# Altium integrated library Maxim Peripheral Pulse Generator.IntLib: 4 symbols
Pins are listed as number, name and electrical type; pins without a type are passive.

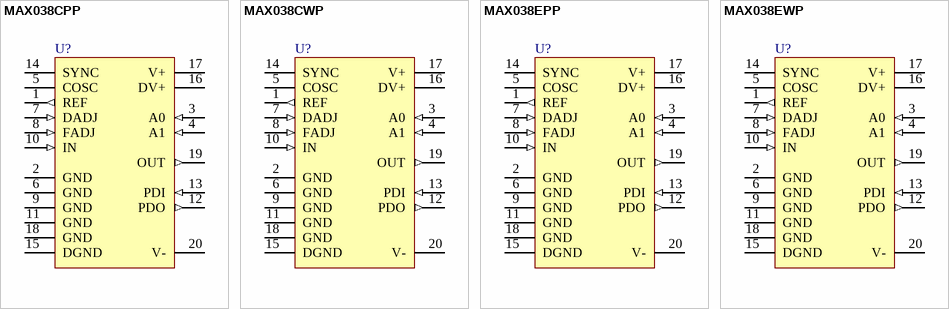
[diagram p0: symbols MAX038CPP to MAX038EWP]

## MAX038CPP
designator U?
High-Frequency Waveform Generator; Published: 16-Jan-2001; LatestRevisionDate: 29-May-2009; LatestRevisionNote: Component Body Added.; DatasheetVersion: Sep-1996; PackageVersion: RevB, 21-0043; PackageReference: PP20; Publisher: Altium Limited; PackageDescription: DIP, 20-Pin, Row Spacing 7.62 mm, Pitch 2.54 mm; Code_JEDEC: MS-001-AE; ComponentLink1Description: Manufacturer Link; ComponentLink1URL: http://www.maxim-ic.com/; ComponentLink2Description: Datasheet; ComponentLink2URL: http://pdfserv.maxim-ic.com/en/ds/MAX038.pdf
footprint PP20 (DIP, 20-Leads, Row Spacing 7.62mm, Pitch 2.54mm, Body 26.16x7.24mm)
3D model PP20 (DIP, 20-Pin, Row Spacing 7.62 mm, Pitch 2.54 mm)
pins: 1 REF (out), 2 GND (power), 3 A0 (in), 4 A1 (in), 5 COSC, 6 GND (power), 7 DADJ (in), 8 FADJ (in), 9 GND (power), 10 IN (in), 11 GND (power), 12 PDO (out), 13 PDI (in), 14 SYNC, 15 DGND (power), 16 DV+ (power), 17 V+ (power), 18 GND (power), 19 OUT (out), 20 V- (power)

## MAX038CWP
designator U?
High-Frequency Waveform Generator; Published: 16-Jan-2001; LatestRevisionDate: 13-Apr-2006; LatestRevisionNote: IPC-7351 Footprint Added.; DatasheetVersion: Sep-1996; PackageReference: WSO20; Publisher: Altium Limited; PackageDescription: 20-Pin Small Outline Integrated Circuit 1.27 mm Pitch; Code_JEDEC: MS-013-AC; Code_IPC: SOIC127P1030-20; ComponentLink1Description: Manufacturer Link; ComponentLink1URL: http://www.maxim-ic.com/; ComponentLink2Description: Datasheet; ComponentLink2URL: http://pdfserv.maxim-ic.com/en/ds/MAX038.pdf
footprint WSO20_N (SOIC, 20-Leads, Body 12.8x7.5mm, Pitch 1.27mm, IPC Medium Density)
footprint WSO20_L (SOIC, 20-Leads, Body 12.8x7.5mm, Pitch 1.27mm, IPC High Density)
footprint WSO20_M (SOIC, 20-Leads, Body 12.8x7.5mm, Pitch 1.27mm, IPC Low Density)
3D model WSO20 (20-Pin Small Outline Integrated Circuit 1.27 mm Pitch)
pins: 1 REF (out), 2 GND (power), 3 A0 (in), 4 A1 (in), 5 COSC, 6 GND (power), 7 DADJ (in), 8 FADJ (in), 9 GND (power), 10 IN (in), 11 GND (power), 12 PDO (out), 13 PDI (in), 14 SYNC, 15 DGND (power), 16 DV+ (power), 17 V+ (power), 18 GND (power), 19 OUT (out), 20 V- (power)

## MAX038EPP
designator U?
High-Frequency Waveform Generator; Published: 16-Jan-2001; LatestRevisionDate: 29-May-2009; LatestRevisionNote: Component Body Added.; DatasheetVersion: Sep-1996; PackageVersion: RevB, 21-0043; PackageReference: PP20; Publisher: Altium Limited; PackageDescription: DIP, 20-Pin, Row Spacing 7.62 mm, Pitch 2.54 mm; Code_JEDEC: MS-001-AE; ComponentLink1Description: Manufacturer Link; ComponentLink1URL: http://www.maxim-ic.com/; ComponentLink2Description: Datasheet; ComponentLink2URL: http://pdfserv.maxim-ic.com/en/ds/MAX038.pdf
footprint PP20 (DIP, 20-Leads, Row Spacing 7.62mm, Pitch 2.54mm, Body 26.16x7.24mm)
3D model PP20 (DIP, 20-Pin, Row Spacing 7.62 mm, Pitch 2.54 mm)
pins: 1 REF (out), 2 GND (power), 3 A0 (in), 4 A1 (in), 5 COSC, 6 GND (power), 7 DADJ (in), 8 FADJ (in), 9 GND (power), 10 IN (in), 11 GND (power), 12 PDO (out), 13 PDI (in), 14 SYNC, 15 DGND (power), 16 DV+ (power), 17 V+ (power), 18 GND (power), 19 OUT (out), 20 V- (power)

## MAX038EWP
designator U?
High-Frequency Waveform Generator; Published: 16-Jan-2001; LatestRevisionDate: 13-Apr-2006; LatestRevisionNote: IPC-7351 Footprint Added.; DatasheetVersion: Sep-1996; PackageReference: WSO20; Publisher: Altium Limited; PackageDescription: 20-Pin Small Outline Integrated Circuit 1.27 mm Pitch; Code_JEDEC: MS-013-AC; Code_IPC: SOIC127P1030-20; ComponentLink1Description: Manufacturer Link; ComponentLink1URL: http://www.maxim-ic.com/; ComponentLink2Description: Datasheet; ComponentLink2URL: http://pdfserv.maxim-ic.com/en/ds/MAX038.pdf
footprint WSO20_N (SOIC, 20-Leads, Body 12.8x7.5mm, Pitch 1.27mm, IPC Medium Density)
footprint WSO20_L (SOIC, 20-Leads, Body 12.8x7.5mm, Pitch 1.27mm, IPC High Density)
footprint WSO20_M (SOIC, 20-Leads, Body 12.8x7.5mm, Pitch 1.27mm, IPC Low Density)
3D model WSO20 (20-Pin Small Outline Integrated Circuit 1.27 mm Pitch)
pins: 1 REF (out), 2 GND (power), 3 A0 (in), 4 A1 (in), 5 COSC, 6 GND (power), 7 DADJ (in), 8 FADJ (in), 9 GND (power), 10 IN (in), 11 GND (power), 12 PDO (out), 13 PDI (in), 14 SYNC, 15 DGND (power), 16 DV+ (power), 17 V+ (power), 18 GND (power), 19 OUT (out), 20 V- (power)